# Altium footprint library SIS412DN-T1-GE3.PcbLib: 1 footprints
Each footprint in its own frame and in the unit in brackets; x right, y up, seen from the top. Pads: shape width x height; smd on the part's side, far side on the other; paste and mask are expansions set on the pad; w line width, h text height; cw(c..) or ccw(c..) is an arc to the next point about the centre after c.
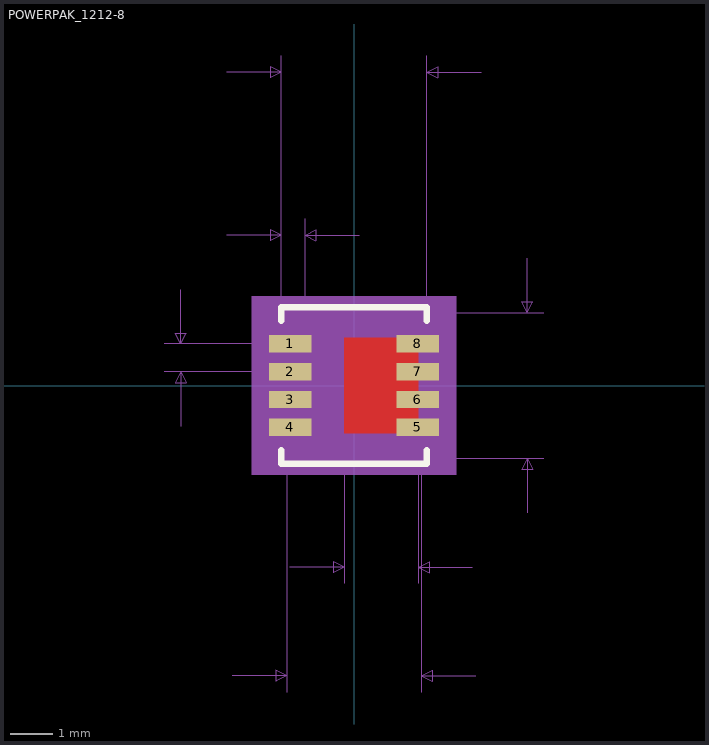
[diagram p0: the footprint, top view; thin cyan lines are the x and y axes]

## POWERPAK_1212-8 [mil]
pads (8):
  rect 39x16 smd paste-19: 1(-58.75,38.39) 2(-58.75,12.8) 3(-58.75,-12.8) 4(-58.75,-38.39) 5(58.75,-38.39) 6(58.75,-12.8) 7(58.75,12.8) 8(58.75,38.39)
Top Layer:
  region: 59,-44 59,44 -9,44 -9,-44
Top Overlay:
  lines w6: -67,-59.49 -67,-72 67,-72 67,-59.49 ; -67,59.49 -67,72 67,72 67,59.49
Top Paste:
  region: 59,44 -9,44 -9,-44 59,-44
  region: 59,44 -9,44 -9,-44 59,-44
  region: 59,44 -9,44 -9,-44 59,-44
Top Solder:
  region: 59,-44 59,44 -9,44 -9,-44
Mechanical 5:
  region: 94,-82 -94,-82 -94,82 94,82
Mechanical 7:
  lines w1: -174.5,12.8 -59.5,12.8 ; -174.5,38.39 -59.5,38.39 ; -159.5,-37.2 -159.5,12.8 ; -159.5,88.39 -159.5,38.39 ; -117,138.39 -67,138.39 ; -117,288.39 -67,288.39 ; -112,-267 -62,-267 ; -67,153.39 -67,38.39 -67,303.39 ; -62,-282 -62,-67 ; -59,-167 -9,-167 ; -45,38.39 -45,153.39 ; -9,-182 -9,-44 ; 5,138.39 -45,138.39 ; 59,-182 59,-44 ; 62,-282 62,-67 174.5,-67 ; 62,67 174.5,67 ; 67,38.39 67,303.39 ; 109,-167 59,-167 ; 112,-267 62,-267 ; 117,288.39 67,288.39 ; 159.5,-117 159.5,-67 ; 159.5,117 159.5,67 ; -159.5,12.8 -164.5,2.8 -154.5,2.8 -159.5,12.8 ; -159.5,38.39 -164.5,48.39 -154.5,48.39 -159.5,38.39 ; -67,138.39 -77,143.39 -77,133.39 -67,138.39 ; -67,288.39 -77,293.39 -77,283.39 -67,288.39 ; -62,-267 -72,-262 -72,-272 -62,-267 ; -45,138.39 -35,143.39 -35,133.39 -45,138.39 ; -9,-167 -19,-162 -19,-172 -9,-167 ; 59,-167 69,-162 69,-172 59,-167 ; 62,-267 72,-262 72,-272 62,-267 ; 67,288.39 77,293.39 77,283.39 67,288.39 ; 159.5,-67 154.5,-77 164.5,-77 159.5,-67 ; 159.5,67 154.5,77 164.5,77 159.5,67
  text "Default Padstyle: RX39Y16D0T" at -350,-442 h50
  text "Alt 1 Padstyle: OX60Y90D30P" at -337.5,-517 h50
  text "Alt 2 Padstyle: OX90Y60D30P" at -337.5,-592 h50
  text "0.134in/3.404mm" at -93.75,308.39 h25
  text "0.022in/0.559mm" at -149.75,158.39 h25
  text "0.026in/0.65mm" at -354.5,13.09 h25
  text "0.134in/3.404mm" at 179.5,-12.5 h25
  text "0.124in/3.15mm" at -87.5,-312 h25
  text "0.068in/1.727mm" at -97.75,-212 h25
Mechanical 13:
  circle w0: c-40,38.39 r0
  lines w0: -12,67 ccw(c0,67) 12,67
  lines w1: -62,-67 62,-67 62,67 -62,67 -62,-67
Mechanical 15:
  region: -72,-53.18 -89,-53.18 -89,53.18 -72,53.18 -72,77 72,77 72,53.18 89,53.18 89,-53.18 72,-53.18 72,-77 -72,-77
  lines w6: -89,-53.18 -89,53.18 -72,53.18 -72,77 72,77 72,53.18 89,53.18 89,-53.18 72,-53.18 72,-77 -72,-77 -72,-53.18 -89,-53.18
3D body: height 10, standoff 0, extent 0,0 10,10